# Altium integrated library Dallas Converter Parallel to Serial.IntLib: 2 symbols
Pins are listed as number, name and electrical type; pins without a type are passive.

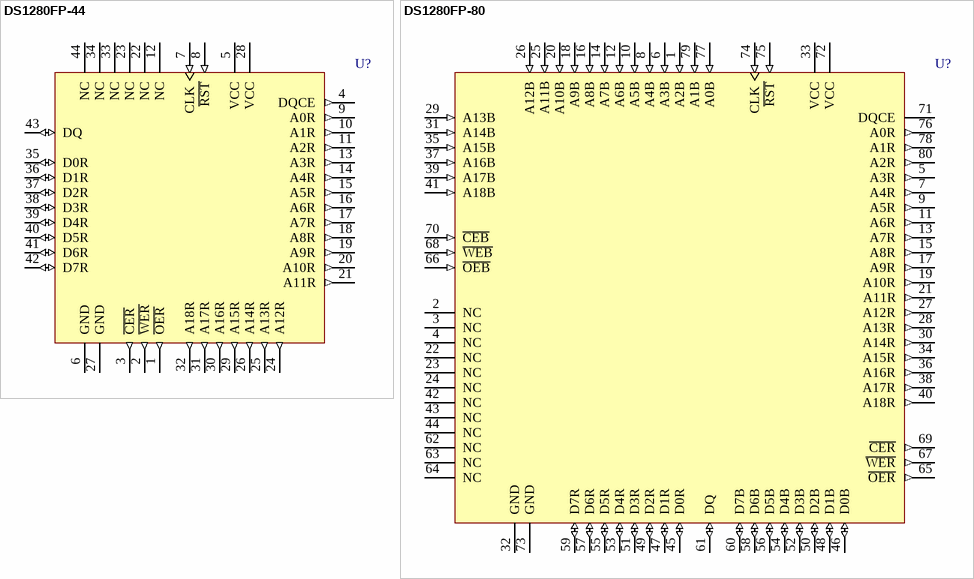
[diagram p0: symbols DS1280FP-44 to DS1280FP-80]

## DS1280FP-44
designator U?
3-Wire to Bytewide Converter Chip; Note: Pin numbers 12, 22, 23, 33, 34 and 44 are Not Connected (NC); Published: 13-Oct-2000; LatestRevisionDate: 13-Apr-2006; LatestRevisionNote: IPC-7351 Footprint Added.; DatasheetVersion: 19-Feb-1998; PackageReference: QFP44; Publisher: Altium Limited; PackageDescription: 44-Pin Quad Flat Pack 0.8 mm Pitch; ComponentLink1Description: Manufacturer Link; ComponentLink1URL: http://www.maxim-ic.com/
footprint QFP44_N (QFP, 44-Leads, Body 10x10mm, Pitch 0.8mm, IPC Medium Density)
footprint QFP44_L (QFP, 44-Leads, Body 10x10mm, Pitch 0.8mm, IPC High Density)
footprint QFP44_M (QFP, 44-Leads, Body 10x10mm, Pitch 0.8mm, IPC Low Density)
3D model DS1280-QFP44 (44-Pin Quad Flat Pack 0.8 mm Pitch)
pins: 1 ~{OER} (out), 2 ~{WER} (out), 3 ~{CER} (out), 4 DQCE (out), 5 VCC (power), 6 GND (power), 7 CLK (in), 8 ~{RST} (in), 9 A0R (out), 10 A1R (out), 11 A2R (out), 12 NC, 13 A3R (out), 14 A4R (out), 15 A5R (out), 16 A6R (out), 17 A7R (out), 18 A8R (out), 19 A9R (out), 20 A10R (out), 21 A11R (out), 22 NC, 23 NC, 24 A12R (out), 25 A13R (out), 26 A14R (out), 27 GND (power), 28 VCC (power), 29 A15R (out), 30 A16R (out), 31 A17R (out), 32 A18R (out), 33 NC, 34 NC, 35 D0R (io), 36 D1R (io), 37 D2R (io), 38 D3R (io), 39 D4R (io), 40 D5R (io), 41 D6R (io), 42 D7R (io), 43 DQ (io), 44 NC

## DS1280FP-80
designator U?
3-Wire to Bytewide Converter Chip; Note: Pin numbers 2-4, 22-24, 42-44 and 62-64 are Not Connected (NC); Published: 13-Oct-2000; LatestRevisionDate: 13-Apr-2006; LatestRevisionNote: IPC-7351 Footprint Added.; DatasheetVersion: 19-Feb-1998; PackageVersion: Feb-1999; PackageReference: QFP80; Publisher: Altium Limited; PackageDescription: 80-Pin Quad Flat Pack Rectangular 0.8 mm Pitch; ComponentLink1Description: Manufacturer Link; ComponentLink1URL: http://www.maxim-ic.com/
footprint QFP80_N (QFP, 80-Leads, Body 20x14mm, Pitch 0.8mm, IPC Medium Density)
footprint QFP80_L (QFP, 80-Leads, Body 20x14mm, Pitch 0.8mm, IPC High Density)
footprint QFP80_M (QFP, 80-Leads, Body 20x14mm, Pitch 0.8mm, IPC Low Density)
3D model DS1280-QFP80 (80-Pin Quad Flat Pack Rectangular 0.8 mm Pitch)
pins: 1 A2B (in), 2 NC, 3 NC, 4 NC, 5 A3R (out), 6 A3B (in), 7 A4R (out), 8 A4B (in), 9 A5R (out), 10 A5B (in), 11 A6R (out), 12 A6B (in), 13 A7R (out), 14 A7B (in), 15 A8R (out), 16 A8B (in), 17 A9R (out), 18 A9B (in), 19 A10R (out), 20 A10B (in), 21 A11R (out), 22 NC, 23 NC, 24 NC, 25 A11B (in), 26 A12B (in), 27 A12R (out), 28 A13R (out), 29 A13B (in), 30 A14R (out), 31 A14B (in), 32 GND (power), 33 VCC (power), 34 A15R (out), 35 A15B (in), 36 A16R (out), 37 A16B (in), 38 A17R (out), 39 A17B (in), 40 A18R (out), 41 A18B (in), 42 NC, 43 NC, 44 NC, 45 D0R (io), 46 D0B (io), 47 D1R (io), 48 D1B (io), 49 D2R (io), 50 D2B (io), 51 D3R (io), 52 D3B (io), 53 D4R (io), 54 D4B (io), 55 D5R (io), 56 D5B (io), 57 D6R (io), 58 D6B (io), 59 D7R (io), 60 D7B (io), 61 DQ (io), 62 NC, 63 NC, 64 NC, 65 ~{OER} (out), 66 ~{OEB} (in), 67 ~{WER} (out), 68 ~{WEB} (in), 69 ~{CER} (out), 70 ~{CEB} (in), 71 DQCE (hiz), 72 VCC (power), 73 GND (power), 74 CLK (in), 75 ~{RST} (in), 76 A0R (out), 77 A0B (in), 78 A1R (out), 79 A1B (in), 80 A2R (out)